# EAGLE library part PIN6 (library 0_HTL_uC-MEGACARD)
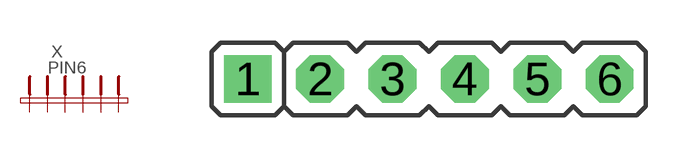
[diagram p15: symbol with the pads of PIN6; footprint PIN6]

Designator prefix X

## PIN6  [PIN6]
1  1  pas
2  2  pas
3  3  pas
4  4  pas
5  5  pas
6  6  pas

## Footprint PIN6 (pad centres in mm)
drill 1 pad 1.676 square: 1 -7.62,0
drill 1 pad 1.676 octagon: 2 -5.08,0; 3 -2.54,0; 4 0,0; 5 2.54,0; 6 5.08,0